# Altium footprint library PcbLib1.PcbLib: 5 footprints
Each footprint in its own frame and in the unit in brackets; x right, y up, seen from the top. Pads: shape width x height; smd on the part's side, far side on the other; paste and mask are expansions set on the pad; w line width, h text height; cw(c..) or ccw(c..) is an arc to the next point about the centre after c.
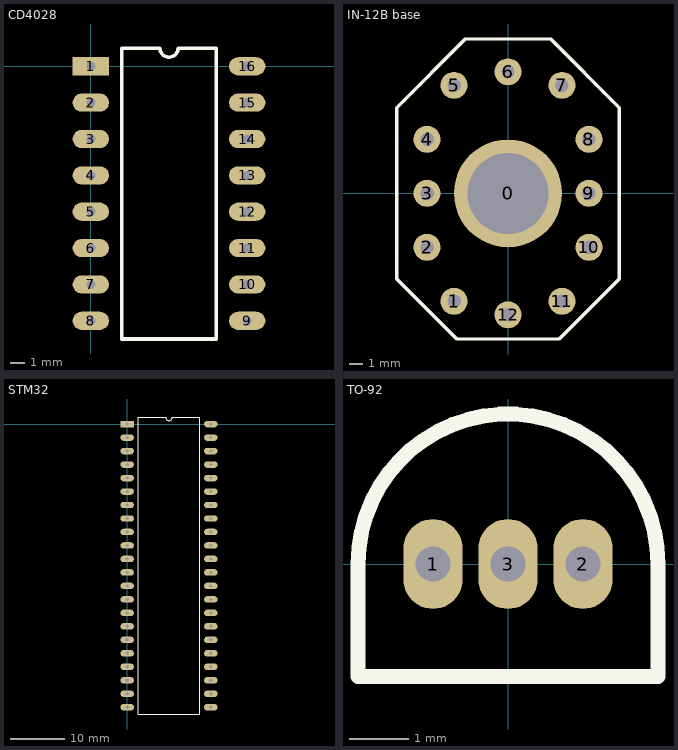
[diagram p0: the footprints below, top view; thin cyan lines are the x and y axes]

## CD4028 [mil]
pads (16):
  rect 100x50 hole 25: 1(0,0)
  oval 100x50 hole 25: 2(0,-100) 3(0,-200) 4(0,-300) 5(0,-400) 6(0,-500) 7(0,-600) 8(0,-700) 9(430,-700) 10(430,-600) 11(430,-500) 12(430,-400) 13(430,-300) 14(430,-200) 15(430,-100) 16(430,0)
Top Overlay:
  lines w10: 85,-750 85,50 190,50 ccw(c215,50) 240,50 345,50 345,-750 85,-750

## IN-12B base [mm]
pads (13):
  round 8 hole 6: 0(0,0)
  round 2 hole 1: 1(-4,-8) 2(-6,-4) 3(-6,0) 4(-6,4) 5(-4,8) 6(0,9) 7(4,8) 8(6,4) 9(6,0) 10(6,-4) 11(4,-8) 12(0,-9)
Top Overlay:
  lines w0.254: -8.255,-6.35 -3.81,-10.795 3.81,-10.795 8.255,-6.35 8.255,6.35 3.175,11.43 -3.175,11.43 -8.255,6.35 -8.255,-6.35
3D body "User Library-IN-12 Tube-1.step": height 29, standoff -6, extent -10.5,-15.125 10.5,15.875

## PCBComponent_1 [mm]

## STM32 [mm]
pads (44):
  rect 2.5x1.2 hole 0.6: 1(0,0)
  oval 2.5x1.2 hole 0.6: 2(0,-2.5) 3(0,-5) 4(0,-7.5) 5(0,-10) 6(0,-12.5) 7(0,-15) 8(0,-17.5) 9(0,-20) 10(0,-22.5) 11(0,-25) 12(0,-27.5) 13(0,-30) 14(0,-32.5) 15(0,-35) 16(0,-37.5) 17(0,-40) 18(0,-42.5) 19(0,-45) 20(0,-47.5) 21(0,-50) 22(0,-52.5) 23(15.5,-52.5) 24(15.5,-50) 25(15.5,-47.5) 26(15.5,-45) 27(15.5,-42.5) 28(15.5,-40) 29(15.5,-37.5) 30(15.5,-35) 31(15.5,-32.5) 32(15.5,-30) 33(15.5,-27.5) 34(15.5,-25) 35(15.5,-22.5) 36(15.5,-20) 37(15.5,-17.5) 38(15.5,-15) 39(15.5,-12.5) 40(15.5,-10) 41(15.5,-7.5) 42(15.5,-5) 43(15.5,-2.5) 44(15.5,0)
Top Overlay:
  lines w0.2: 2.085,-53.75 2.085,1.25 7.125,1.25 ccw(c7.75,1.25) 8.375,1.25 13.415,1.25 13.415,-53.75 2.085,-53.75

## TO-92 [mm] "NPN"
pads (3):
  oval 1x1.524 hole 0.6: 1(-1.27,0) 2(1.27,0) 3(0,0)
Top Overlay:
  lines w0.254: -2.54,-1.905 -2.54,0 cw(c0,0) 2.54,0 2.54,-1.905 -2.54,-1.905